# EAGLE library part ULTRAVOLT_DAUGHTERBOARD_DMN2004DMK_DUAL_N-CHANNEL_MOSFET_ARRAY (library Batboard rev 2.2)
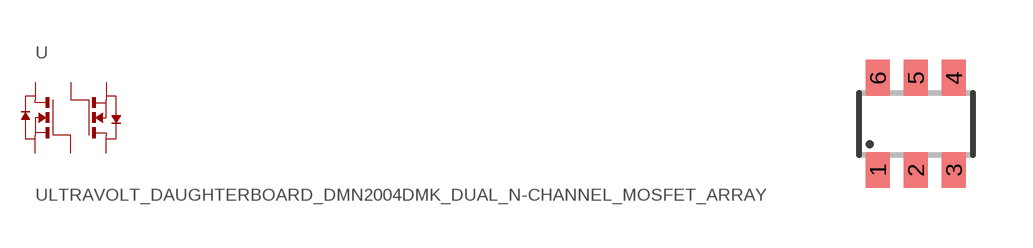
[diagram p8: symbol with the pads of ULTRAVOLT_DAUGHTERBOARD_SOT23-6; footprint ULTRAVOLT_DAUGHTERBOARD_SOT23-6]

Designator prefix -

## ULTRAVOLT_DAUGHTERBOARD_DMN2004DMK_DUAL_N-CHANNEL_MOSFET_ARRAY  [ULTRAVOLT_DAUGHTERBOARD_SOT23-6]
1  S1  pas
2  G1  pas
3  D1  pas
4  S  pas
5  G  pas
6  D  pas

## Footprint ULTRAVOLT_DAUGHTERBOARD_SOT23-6 (pad centres in mm)
smd 0.6 x 0.9: 1 -0.95,-1.15; 2 0,-1.15; 3 0.95,-1.15; 4 0.95,1.15; 5 0,1.15; 6 -0.95,1.15